# Altium schematic symbol library Integrados.SchLib: 8 symbols
Pins are listed as number, name and electrical type; pins without a type are passive.

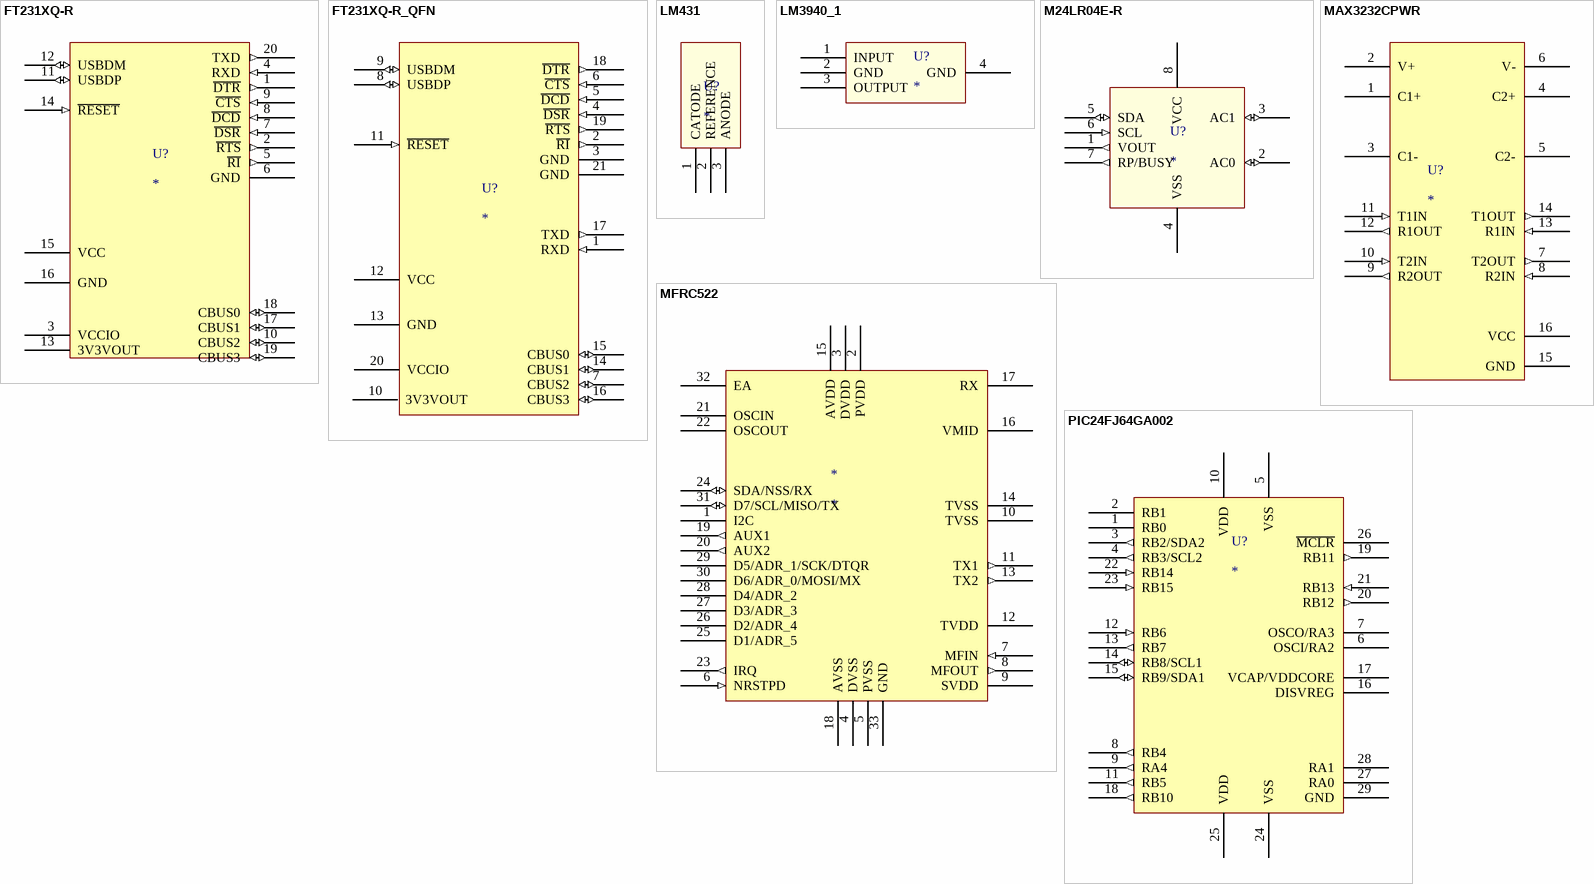
[diagram p0: symbols FT231XQ-R to PIC24FJ64GA002]

## FT231XQ-R
designator U?
pins: 1 ~{DTR} (out), 2 ~{RTS} (out), 3 VCCIO (power), 4 RXD (in), 5 ~{RI} (out), 6 GND (power), 7 ~{DSR} (in), 8 ~{DCD} (in), 9 ~{CTS} (in), 10 CBUS2 (io), 11 USBDP (io), 12 USBDM (io), 13 3V3VOUT (power), 14 ~{RESET} (in), 15 VCC (power), 16 GND (power), 17 CBUS1 (io), 18 CBUS0 (io), 19 CBUS3 (io), 20 TXD (out)

## FT231XQ-R_QFN
designator U?
pins: 1 RXD (in), 2 ~{RI} (out), 3 GND (power), 4 ~{DSR} (in), 5 ~{DCD} (in), 6 ~{CTS} (in), 7 CBUS2 (io), 8 USBDP (io), 9 USBDM (io), 10 3V3VOUT (power), 11 ~{RESET} (in), 12 VCC (power), 13 GND (power), 14 CBUS1 (io), 15 CBUS0 (io), 16 CBUS3 (io), 17 TXD (out), 18 ~{DTR} (out), 19 ~{RTS} (out), 20 VCCIO (power), 21 GND (power)

## LM431
designator U?
LM431 Adjustable Precision Zener Shunt Regulator; Manufacturer: Texas Instruments; Manufacturer Part Number: LM431BIM3X/NOPB
pins: 1 CATODE, 2 REFERENCE, 3 ANODE

## LM3940_1
designator U?
Regulador 3.3v
footprint SOT_223 (SOT 223)
pins: 1 INPUT, 2 GND, 3 OUTPUT, 4 GND

## M24LR04E-R
designator U?
EEPROM Dynamic NFC/RFID tag IC with  4-Kbit EEPROM
footprint TSSOP8
pins: 1 VOUT (out), 2 AC0 (io), 3 AC1 (io), 4 VSS (power), 5 SDA (io), 6 SCL (in), 7 RP/BUSY (out), 8 VCC (power)

## MAX3232CPWR
designator U?
Conversor USB-RS232
pins: 1 C1+, 2 V+ (power), 3 C1-, 4 C2+, 5 C2-, 6 V- (power), 7 T2OUT (out), 8 R2IN (in), 9 R2OUT (out), 10 T2IN (in), 11 T1IN (in), 12 R1OUT (out), 13 R1IN (in), 14 T1OUT (out), 15 GND (power), 16 VCC (power)

## MFRC522
designator *
READER (Write and Read Station 13.56Mhz)
footprint QFN32
pins: 1 I2C (power), 2 PVDD (power), 3 DVDD (power), 4 DVSS (power), 5 PVSS (power), 6 NRSTPD (in), 7 MFIN (in), 8 MFOUT (out), 9 SVDD (power), 10 TVSS (power), 11 TX1 (out), 12 TVDD (power), 13 TX2 (out), 14 TVSS (power), 15 AVDD (power), 16 VMID, 17 RX, 18 AVSS (power), 19 AUX1 (out), 20 AUX2 (out), 21 OSCIN, 22 OSCOUT, 23 IRQ (out), 24 SDA/NSS/RX (io), 25 D1/ADR_5, 26 D2/ADR_4, 27 D3/ADR_3, 28 D4/ADR_2 (power), 29 D5/ADR_1/SCK/DTQR (power), 30 D6/ADR_0/MOSI/MX (power), 31 D7/SCL/MISO/TX (io), 32 EA, 33 GND (power)

## PIC24FJ64GA002
designator U?
PIC Microcontroller; Manufacturer: Microchip Technology; Manufacturer Part Number: PIC16F1823-I/ST
footprint QFN28
pins: 1 RB0, 2 RB1, 3 RB2/SDA2 (out), 4 RB3/SCL2 (out), 5 VSS, 6 OSCI/RA2, 7 OSCO/RA3, 8 RB4 (out), 9 RA4 (out), 10 VDD, 11 RB5 (out), 12 RB6 (in), 13 RB7 (out), 14 RB8/SCL1 (io), 15 RB9/SDA1 (io), 16 DISVREG, 17 VCAP/VDDCORE, 18 RB10 (out), 19 RB11 (out), 20 RB12 (out), 21 RB13 (in), 22 RB14 (in), 23 RB15 (in), 24 VSS, 25 VDD, 26 ~{MCLR}, 27 RA0, 28 RA1 (power), 29 GND (power)